# Altium footprint library Gelnar.PcbLib: 295 footprints (part 16 of 19)
Each footprint in its own frame and in the unit in brackets; x right, y up, seen from the top. Pads: shape width x height; smd on the part's side, far side on the other; paste and mask are expansions set on the pad; w line width, h text height; cw(c..) or ccw(c..) is an arc to the next point about the centre after c.
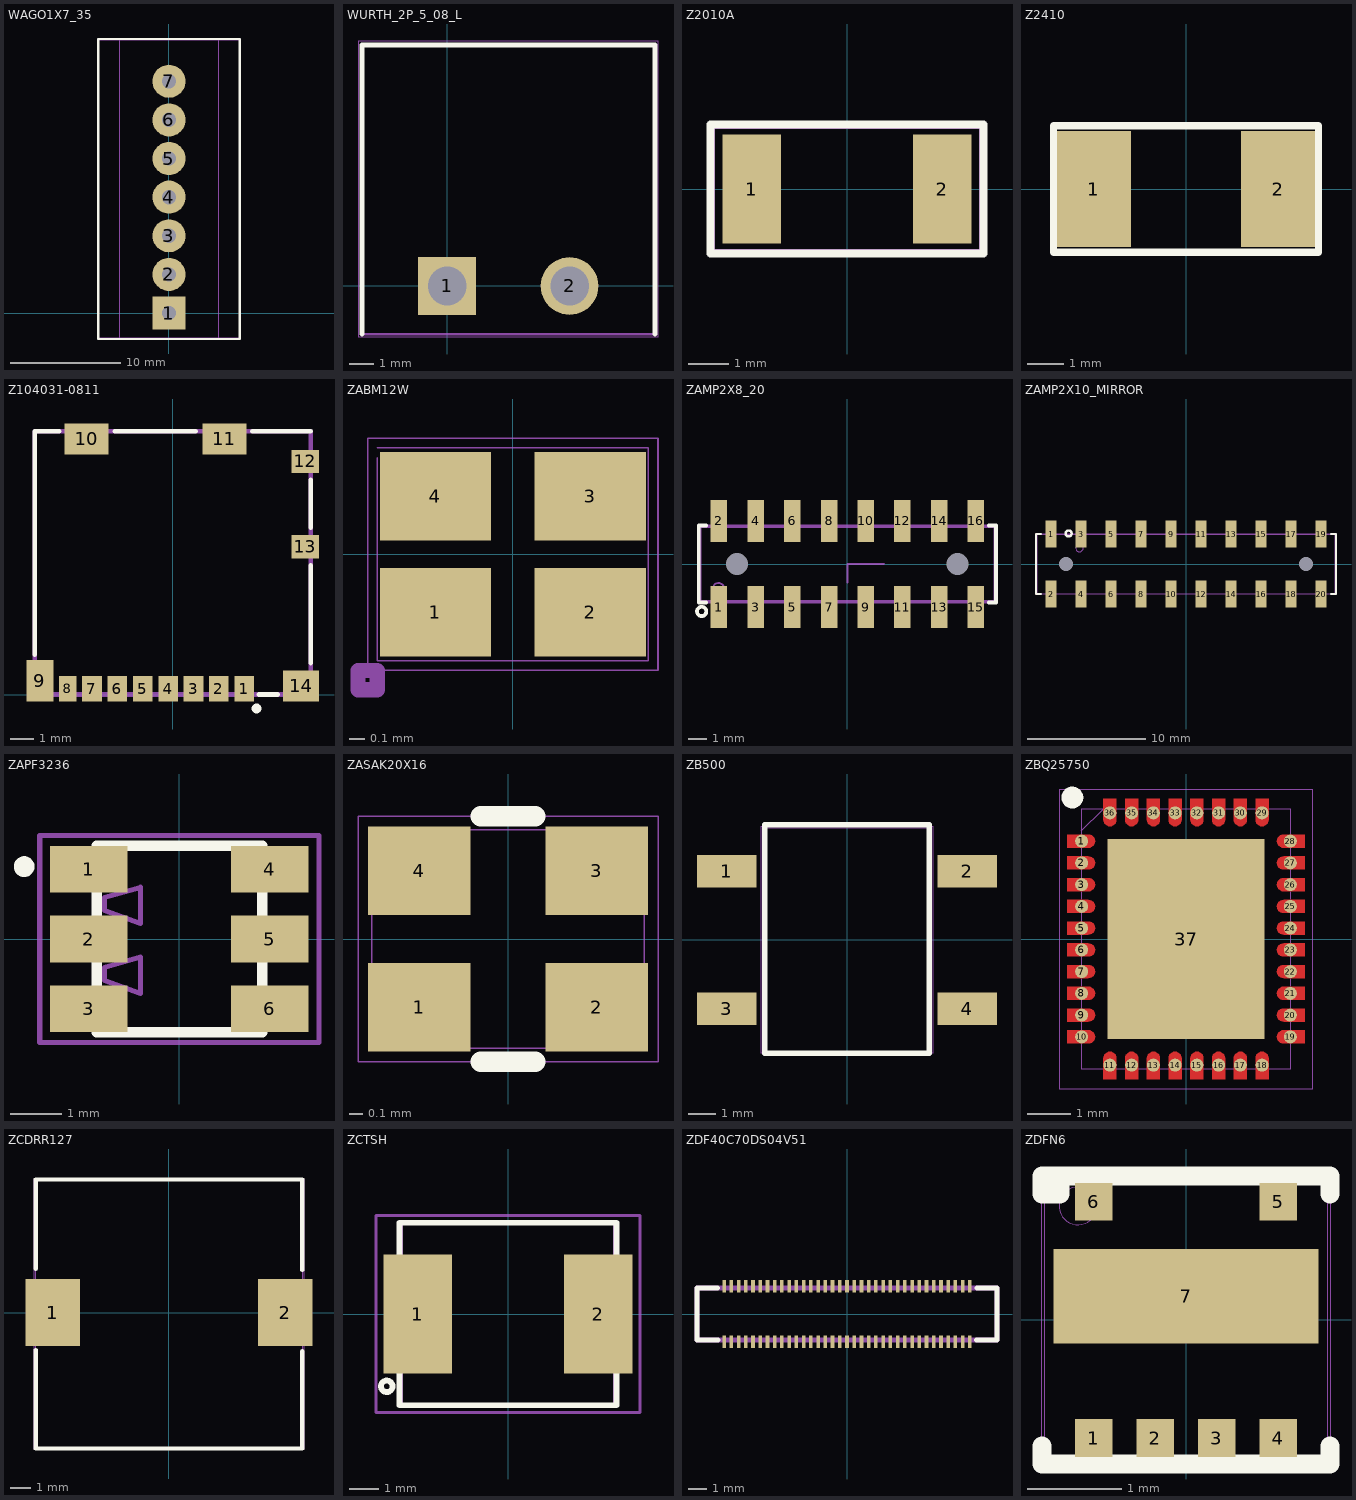
[diagram p15: the footprints below, top view; thin cyan lines are the x and y axes]

## WAGO1X7_35 [mm]
pads (7):
  rect 3x3 hole 1.3 mask+0.1: 1(0,0)
  round 3 hole 1.3 mask+0.1: 2(0,3.5) 3(0,7) 4(0,10.5) 5(0,14) 6(0,17.5) 7(0,21)
Top Overlay:
  lines w0.2: -6.413,-2.349 6.413,-2.349 6.413,24.828 -6.413,24.828 -6.413,-2.349
Mechanical 15:
  lines w0.1: -4.445,-2.286 -4.445,24.765 ; 4.445,-2.286 4.445,24.765 ; -6.35,-2.286 -6.35,24.765 6.35,24.765 6.35,-2.286 -6.35,-2.286
Multi-Layer:
  text "Value" at -3.735,1.996 h0.75
Mechanical 20:
  lines w0.1: -6.413,-2.349 -6.413,24.828 6.413,24.828 6.413,-2.349 -6.413,-2.349

## WURTH_2P_5_08_L [mm]
pads (2):
  rect 2.4x2.4 / inner round 2.4 / far side rect 2.4x2.4 hole 1.6 mask+0.05: 1(0,0)
  round 2.4 hole 1.6 mask+0.05: 2(5.08,0)
Top Overlay:
  lines w0.2: -3.54,-2 -3.54,10 8.62,10 8.62,-2
Mechanical 15:
  lines w0.1: -3.54,-2 -3.54,10 8.62,10 8.62,-2 -3.54,-2
Multi-Layer:
  text "Value" at 1,2.9 h0.75
Mechanical 20:
  lines w0.05: -3.7,-2.1 8.75,-2.1 8.75,10.15 -3.7,10.15 -3.7,-2.1

## Z2010A [mm]
height 1.25
pads (2):
  rect 1.45x2.7 smd paste-0.205 mask+0.05: 1(-2.349,0) 2(2.349,0)
Top Overlay:
  lines w0.2: -3.365,-1.587 3.365,-1.587 3.365,1.587 -3.365,1.587 -3.365,-1.587
Mechanical 15:
  lines w0.1: -3.302,-1.524 3.302,-1.524 3.302,1.524 -3.302,1.524 -3.302,-1.524
Multi-Layer:
  text "Value" at -1.172,-1.06 h0.75
Mechanical 20:
  lines w0.1: -3.365,-1.587 3.365,-1.587 3.365,1.587 -3.365,1.587 -3.365,-1.587

## Z2410 [mm]
pads (2):
  rect 2x3.15 smd mask+0.05: 1(-2.5,0) 2(2.5,0)
Top Overlay:
  lines w0.2: -3.6,-1.714 3.6,-1.714 3.6,1.714 -3.6,1.714 -3.6,-1.714
Mechanical 15:
  lines w0.01: -3.556,-1.651 3.556,-1.651 3.556,1.651 -3.556,1.651 -3.556,-1.651
Multi-Layer:
  text "Value" at -1.127,-1.015 h0.75
Mechanical 20:
  lines w0.01: -3.619,-1.714 3.619,-1.714 3.619,1.714 -3.619,1.714 -3.619,-1.714

## Z104031-0811 [mm]
pads (14):
  rect 0.85x1.1 smd mask+0.05: 1(3.105,0.25) 2(2.005,0.25) 3(0.905,0.25) 4(-0.195,0.25) 5(-1.295,0.25) 6(-2.395,0.25) 7(-3.495,0.25)
  rect 0.75x1.1 smd mask+0.05: 8(-4.545,0.25)
  rect 1.17x1.8 smd mask+0.05: 9(-5.755,0.6)
  rect 1.9x1.35 smd mask+0.05: 10(-3.73,11.075) 11(2.24,11.075)
  rect 1.2x1 smd mask+0.05: 12(5.74,10.1) 13(5.74,6.4)
  rect 1.55x1.35 smd mask+0.05: 14(5.565,0.375)
Top Overlay:
  circle w0.2: c3.634,-0.605 r0.113
  lines w0.2: -5.975,1.721 -5.975,11.4 -4.914,11.4 ; -2.5,11.4 1,11.4 ; 3.455,11.4 5.975,11.4 ; 3.739,0 4.56,0 ; 5.975,1.367 5.975,5.601 ; 5.975,7.216 5.975,9.297
Mechanical 15:
  lines w0.2: -5.975,0 5.975,0 5.975,11.4 -5.975,11.4 -5.975,0

## ZABM12W [mm]
pads (4):
  rect 0.73x0.58 smd paste-0.055 mask+0.05: 1(-0.508,-0.381) 2(0.508,-0.381) 3(0.508,0.381) 4(-0.508,0.381)
Mechanical 15:
  lines w0.01: -0.889,0.635 -0.889,-0.699 0.889,-0.699 0.889,0.699 -0.889,0.699
  lines w0.1: -1.016,-0.889 -0.889,-0.889 -0.889,-0.762 -1.016,-0.762 -1.016,-0.889
Mechanical 19:
  lines w0.01: -0.953,-0.762 0.953,-0.762 0.953,0.762 -0.953,0.762 -0.953,-0.762

## ZAMP2X8_20 [mm]
pads (18):
  rect 0.9x2.3 smd paste-0.175 mask+0.05: 1(-7,-2.349) 2(-7,2.349) 3(-5,-2.349) 4(-5,2.349) 5(-3,-2.349) 6(-3,2.349) 7(-1,-2.349) 8(-1,2.349) 9(1,-2.349) 10(1,2.349) 11(3,-2.349) 12(3,2.349) 13(5,-2.349) 14(5,2.349) 15(7,-2.349) 16(7,2.349)
  round 0 hole 1.2 unplated: HL1(-6,0) HL2(6,0)
Top Overlay:
  circle w0.2: c-7.936,-2.585 r0.254
  lines w0.2: -7.7,-2.1 -8.1,-2.1 -8.1,2.1 -7.7,2.1 ; 7.7,-2.1 8.1,-2.1 8.1,2.1 7.7,2.1
Mechanical 15:
  circle w0.1: c-7.019,-1.351 r0.318
  lines w0.1: -8,-2 8,-2 8,2 -8,2 -8,-2
Mechanical 16:
  lines w0.1: 0,-1 0,0 2,0
Multi-Layer:
  text "Value" at -1.285,-1.725 h0.75
Mechanical 20:
  lines w0.1: -8.1,-2.1 8.1,-2.1 8.1,2.1 -8.1,2.1 -8.1,-2.1

## ZAMP2X10_MIRROR [mm]
pads (22):
  rect 0.9x2.3 smd paste-0.175 mask+0.05: 1(-11.43,2.54) 2(-11.43,-2.54) 3(-8.89,2.54) 4(-8.89,-2.54) 5(-6.35,2.54) 6(-6.35,-2.54) 7(-3.81,2.54) 8(-3.81,-2.54) 9(-1.27,2.54) 10(-1.27,-2.54) 11(1.27,2.54) 12(1.27,-2.54) 13(3.81,2.54) 14(3.81,-2.54) 15(6.35,2.54) 16(6.35,-2.54) 17(8.89,2.54) 18(8.89,-2.54) 19(11.43,2.54) 20(11.43,-2.54)
  round 0 hole 1.2 unplated: HL1(-10.16,0) HL2(10.16,0)
Top Overlay:
  circle w0.2: c-9.937,2.585 r0.254
  lines w0.2: -12.3,-2.54 -12.7,-2.54 -12.7,2.54 -12.3,2.54 ; 12.3,-2.54 12.7,-2.54 12.7,2.54 12.3,2.54
Mechanical 15:
  circle w0.1: c-9.019,1.351 r0.318
  lines w0.1: -12.6,-2.54 12.6,-2.54 12.6,2.54 -12.6,2.54 -12.6,-2.54
Mechanical 20:
  lines w0.1: -12.7,-2.55 12.7,-2.55 12.7,2.55 -12.7,2.55 -12.7,-2.55

## ZAPF3236 [mm]
pads (6):
  rect 1.5x0.9 smd paste-0.112 mask+0.05: 1(-1.75,1.35) 2(-1.75,0) 3(-1.75,-1.35) 4(1.75,1.35) 5(1.75,0) 6(1.75,-1.35)
Top Overlay:
  lines w0.1: -0.2,-1.8 0.2,-1.8 ; -0.2,1.8 0.2,1.8
  lines w0.2: -3,1.3 cw(c-3,1.4) -3,1.5 ; -3,1.3 -3,1.3 ; -3,1.3 ccw(c-3,1.4) -3,1.5 ; -3,1.3 cw(c-3,1.4) -3,1.5 ; -3,1.5 -3,1.5 ; -3,1.5 -3,1.5 ; -1.6,-1.8 1.6,-1.8 1.6,1.8 -1.6,1.8 -1.6,-1.8
Mechanical 15:
  lines w0.1: -1.6,-1.8 1.6,-1.8 1.6,1.8 -1.6,1.8 -1.6,-1.8 ; -1.45,-0.8 -1.45,-0.55 -0.75,-0.35 -0.75,-1.05 -1.45,-0.8 ; -1.45,0.55 -1.45,0.8 -0.75,1 -0.75,0.3 -1.45,0.55
Mechanical 20:
  lines w0.1: -2.7,-2 2.7,-2 2.7,2 -2.7,2 -2.7,-2

## ZASAK20X16 [mm]
pads (4):
  rect 0.75x0.65 smd mask+0.05: 1(-0.65,-0.5) 2(0.65,-0.5) 3(0.65,0.5) 4(-0.65,0.5)
Top Overlay:
  lines w0.15: -0.2,-0.9 0.2,-0.9 ; -0.2,0.9 0.2,0.9
Mechanical 15:
  circle w0.01: c-0.7,-0.5 r0.2
  lines w0.01: -1,-0.8 1,-0.8 1,0.8 -1,0.8 -1,-0.8
Mechanical 20:
  lines w0.01: -1.1,-0.9 1.1,-0.9 1.1,0.9 -1.1,0.9 -1.1,-0.9

## ZB500 [mm]
pads (4):
  rect 2.2x1.2 smd mask+0.05: 1(-4.445,2.54) 2(4.445,2.54) 3(-4.445,-2.54) 4(4.445,-2.54)
Top Overlay:
  lines w0.2: -3.048,-4.191 3.048,-4.191 3.048,4.255 -3.048,4.255 -3.048,-4.191
Mechanical 15:
  lines w0.01: -3.111,-4.15 3.111,-4.15 3.111,4.15 -3.111,4.15 -3.111,-4.15
  text "+" at 1.618,-2.763 h1.25
  text "~" at -2.623,-3.287 h1.5
  text "~" at -2.496,1.793 h1.5
  text "-" at 1.682,2.853 h1.25
Multi-Layer:
  text "Value" at -1.379,-2.007 h0.75
Mechanical 20:
  lines w0.01: -3.175,-4.191 3.175,-4.191 3.175,4.191 -3.175,4.191 -3.175,-4.191

## ZBQ25750 [mm]
pads (37):
  round 0.3 smd: 1(-2.4,2.25) 2(-2.4,1.75) 3(-2.4,1.25) 4(-2.4,0.75) 5(-2.4,0.25) 6(-2.4,-0.25) 7(-2.4,-0.75) 8(-2.4,-1.25) 9(-2.4,-1.75) 10(-2.4,-2.25) 11(-1.75,-2.9) 12(-1.25,-2.9) 13(-0.75,-2.9) 14(-0.25,-2.9) 15(0.25,-2.9) 16(0.75,-2.9) 17(1.25,-2.9) 18(1.75,-2.9) 19(2.4,-2.25) 20(2.4,-1.75) 21(2.4,-1.25) 22(2.4,-0.75) 23(2.4,-0.25) 24(2.4,0.25) 25(2.4,0.75) 26(2.4,1.25) 27(2.4,1.75) 28(2.4,2.25) 29(1.75,2.9) 30(1.25,2.9) 31(0.75,2.9) 32(0.25,2.9) 33(-0.25,2.9) 34(-0.75,2.9) 35(-1.25,2.9) 36(-1.75,2.9)
  rect 3.6x4.6 smd mask+0.05: 37(0,0)
L1-Top Layer:
  region: -2.73,2.4 -2.243,2.401 -2.204,2.396 -2.168,2.381 -2.136,2.357 -2.112,2.326 -2.097,2.289 -2.092,2.25 -2.097,2.211 -2.112,2.174 -2.136,2.143 -2.168,2.119 -2.204,2.104 -2.243,2.099 -2.243,2.1 -2.73,2.1
  region: -2.73,1.9 -2.243,1.901 -2.204,1.896 -2.168,1.881 -2.136,1.857 -2.112,1.826 -2.097,1.789 -2.092,1.75 -2.097,1.711 -2.112,1.674 -2.136,1.643 -2.168,1.619 -2.204,1.604 -2.243,1.599 -2.243,1.6 -2.73,1.6
  region: -2.73,1.4 -2.243,1.401 -2.204,1.396 -2.168,1.381 -2.136,1.357 -2.112,1.326 -2.097,1.289 -2.092,1.25 -2.097,1.211 -2.112,1.174 -2.136,1.143 -2.168,1.119 -2.204,1.104 -2.243,1.099 -2.243,1.1 -2.73,1.1
  region: -2.73,0.9 -2.243,0.901 -2.204,0.896 -2.168,0.881 -2.136,0.857 -2.112,0.826 -2.097,0.789 -2.092,0.75 -2.097,0.711 -2.112,0.674 -2.136,0.643 -2.168,0.619 -2.204,0.604 -2.243,0.599 -2.243,0.6 -2.73,0.6
  region: -2.73,0.4 -2.243,0.401 -2.204,0.396 -2.168,0.381 -2.136,0.357 -2.112,0.326 -2.097,0.289 -2.092,0.25 -2.097,0.211 -2.112,0.174 -2.136,0.143 -2.168,0.119 -2.204,0.104 -2.243,0.099 -2.243,0.1 -2.73,0.1
  region: -2.73,-0.1 -2.243,-0.099 -2.204,-0.104 -2.168,-0.119 -2.136,-0.143 -2.112,-0.174 -2.097,-0.211 -2.092,-0.25 -2.097,-0.289 -2.112,-0.326 -2.136,-0.357 -2.168,-0.381 -2.204,-0.396 -2.243,-0.401 -2.243,-0.4 -2.73,-0.4
  region: -2.73,-0.6 -2.243,-0.599 -2.204,-0.604 -2.168,-0.619 -2.136,-0.643 -2.112,-0.674 -2.097,-0.711 -2.092,-0.75 -2.097,-0.789 -2.112,-0.826 -2.136,-0.857 -2.168,-0.881 -2.204,-0.896 -2.243,-0.901 -2.243,-0.9 -2.73,-0.9
  region: -2.73,-1.1 -2.243,-1.099 -2.204,-1.104 -2.168,-1.119 -2.136,-1.143 -2.112,-1.174 -2.097,-1.211 -2.092,-1.25 -2.097,-1.289 -2.112,-1.326 -2.136,-1.357 -2.168,-1.381 -2.204,-1.396 -2.243,-1.401 -2.243,-1.4 -2.73,-1.4
  region: -2.73,-1.6 -2.243,-1.599 -2.204,-1.604 -2.168,-1.619 -2.136,-1.643 -2.112,-1.674 -2.097,-1.711 -2.092,-1.75 -2.097,-1.789 -2.112,-1.826 -2.136,-1.857 -2.168,-1.881 -2.204,-1.896 -2.243,-1.901 -2.243,-1.9 -2.73,-1.9
  region: -2.73,-2.1 -2.243,-2.099 -2.204,-2.104 -2.168,-2.119 -2.136,-2.143 -2.112,-2.174 -2.097,-2.211 -2.092,-2.25 -2.097,-2.289 -2.112,-2.326 -2.136,-2.357 -2.168,-2.381 -2.204,-2.396 -2.243,-2.401 -2.243,-2.4 -2.73,-2.4
  region: -1.9,-3.23 -1.901,-2.743 -1.896,-2.704 -1.881,-2.668 -1.857,-2.636 -1.826,-2.612 -1.789,-2.597 -1.75,-2.592 -1.711,-2.597 -1.674,-2.612 -1.643,-2.636 -1.619,-2.668 -1.604,-2.704 -1.599,-2.743 -1.6,-2.743 -1.6,-3.23
  region: -1.4,-3.23 -1.401,-2.743 -1.396,-2.704 -1.381,-2.668 -1.357,-2.636 -1.326,-2.612 -1.289,-2.597 -1.25,-2.592 -1.211,-2.597 -1.174,-2.612 -1.143,-2.636 -1.119,-2.668 -1.104,-2.704 -1.099,-2.743 -1.1,-2.743 -1.1,-3.23
  region: -0.9,-3.23 -0.901,-2.743 -0.896,-2.704 -0.881,-2.668 -0.857,-2.636 -0.826,-2.612 -0.789,-2.597 -0.75,-2.592 -0.711,-2.597 -0.674,-2.612 -0.643,-2.636 -0.619,-2.668 -0.604,-2.704 -0.599,-2.743 -0.6,-2.743 -0.6,-3.23
  region: -0.4,-3.23 -0.401,-2.743 -0.396,-2.704 -0.381,-2.668 -0.357,-2.636 -0.326,-2.612 -0.289,-2.597 -0.25,-2.592 -0.211,-2.597 -0.174,-2.612 -0.143,-2.636 -0.119,-2.668 -0.104,-2.704 -0.099,-2.743 -0.1,-2.743 -0.1,-3.23
  region: 0.1,-3.23 0.099,-2.743 0.104,-2.704 0.119,-2.668 0.143,-2.636 0.174,-2.612 0.211,-2.597 0.25,-2.592 0.289,-2.597 0.326,-2.612 0.357,-2.636 0.381,-2.668 0.396,-2.704 0.401,-2.743 0.4,-2.743 0.4,-3.23
  region: 0.6,-3.23 0.599,-2.743 0.604,-2.704 0.619,-2.668 0.643,-2.636 0.674,-2.612 0.711,-2.597 0.75,-2.592 0.789,-2.597 0.826,-2.612 0.857,-2.636 0.881,-2.668 0.896,-2.704 0.901,-2.743 0.9,-2.743 0.9,-3.23
  region: 1.1,-3.23 1.099,-2.743 1.104,-2.704 1.119,-2.668 1.143,-2.636 1.174,-2.612 1.211,-2.597 1.25,-2.592 1.289,-2.597 1.326,-2.612 1.357,-2.636 1.381,-2.668 1.396,-2.704 1.401,-2.743 1.4,-2.743 1.4,-3.23
  region: 1.6,-3.23 1.599,-2.743 1.604,-2.704 1.619,-2.668 1.643,-2.636 1.674,-2.612 1.711,-2.597 1.75,-2.592 1.789,-2.597 1.826,-2.612 1.857,-2.636 1.881,-2.668 1.896,-2.704 1.901,-2.743 1.9,-2.743 1.9,-3.23
  region: 2.73,-2.4 2.243,-2.401 2.204,-2.396 2.168,-2.381 2.136,-2.357 2.112,-2.326 2.097,-2.289 2.092,-2.25 2.097,-2.211 2.112,-2.174 2.136,-2.143 2.168,-2.119 2.204,-2.104 2.243,-2.099 2.243,-2.1 2.73,-2.1
  region: 2.73,-1.9 2.243,-1.901 2.204,-1.896 2.168,-1.881 2.136,-1.857 2.112,-1.826 2.097,-1.789 2.092,-1.75 2.097,-1.711 2.112,-1.674 2.136,-1.643 2.168,-1.619 2.204,-1.604 2.243,-1.599 2.243,-1.6 2.73,-1.6
  region: 2.73,-1.4 2.243,-1.401 2.204,-1.396 2.168,-1.381 2.136,-1.357 2.112,-1.326 2.097,-1.289 2.092,-1.25 2.097,-1.211 2.112,-1.174 2.136,-1.143 2.168,-1.119 2.204,-1.104 2.243,-1.099 2.243,-1.1 2.73,-1.1
  region: 2.73,-0.9 2.243,-0.901 2.204,-0.896 2.168,-0.881 2.136,-0.857 2.112,-0.826 2.097,-0.789 2.092,-0.75 2.097,-0.711 2.112,-0.674 2.136,-0.643 2.168,-0.619 2.204,-0.604 2.243,-0.599 2.243,-0.6 2.73,-0.6
  region: 2.73,-0.4 2.243,-0.401 2.204,-0.396 2.168,-0.381 2.136,-0.357 2.112,-0.326 2.097,-0.289 2.092,-0.25 2.097,-0.211 2.112,-0.174 2.136,-0.143 2.168,-0.119 2.204,-0.104 2.243,-0.099 2.243,-0.1 2.73,-0.1
  region: 2.73,0.1 2.243,0.099 2.204,0.104 2.168,0.119 2.136,0.143 2.112,0.174 2.097,0.211 2.092,0.25 2.097,0.289 2.112,0.326 2.136,0.357 2.168,0.381 2.204,0.396 2.243,0.401 2.243,0.4 2.73,0.4
  region: 2.73,0.6 2.243,0.599 2.204,0.604 2.168,0.619 2.136,0.643 2.112,0.674 2.097,0.711 2.092,0.75 2.097,0.789 2.112,0.826 2.136,0.857 2.168,0.881 2.204,0.896 2.243,0.901 2.243,0.9 2.73,0.9
  region: 2.73,1.1 2.243,1.099 2.204,1.104 2.168,1.119 2.136,1.143 2.112,1.174 2.097,1.211 2.092,1.25 2.097,1.289 2.112,1.326 2.136,1.357 2.168,1.381 2.204,1.396 2.243,1.401 2.243,1.4 2.73,1.4
  region: 2.73,1.6 2.243,1.599 2.204,1.604 2.168,1.619 2.136,1.643 2.112,1.674 2.097,1.711 2.092,1.75 2.097,1.789 2.112,1.826 2.136,1.857 2.168,1.881 2.204,1.896 2.243,1.901 2.243,1.9 2.73,1.9
  region: 2.73,2.1 2.243,2.099 2.204,2.104 2.168,2.119 2.136,2.143 2.112,2.174 2.097,2.211 2.092,2.25 2.097,2.289 2.112,2.326 2.136,2.357 2.168,2.381 2.204,2.396 2.243,2.401 2.243,2.4 2.73,2.4
  region: 1.9,3.23 1.901,2.743 1.896,2.704 1.881,2.668 1.857,2.636 1.826,2.612 1.789,2.597 1.75,2.592 1.711,2.597 1.674,2.612 1.643,2.636 1.619,2.668 1.604,2.704 1.599,2.743 1.6,2.743 1.6,3.23
  region: 1.4,3.23 1.401,2.743 1.396,2.704 1.381,2.668 1.357,2.636 1.326,2.612 1.289,2.597 1.25,2.592 1.211,2.597 1.174,2.612 1.143,2.636 1.119,2.668 1.104,2.704 1.099,2.743 1.1,2.743 1.1,3.23
  region: 0.9,3.23 0.901,2.743 0.896,2.704 0.881,2.668 0.857,2.636 0.826,2.612 0.789,2.597 0.75,2.592 0.711,2.597 0.674,2.612 0.643,2.636 0.619,2.668 0.604,2.704 0.599,2.743 0.6,2.743 0.6,3.23
  region: 0.4,3.23 0.401,2.743 0.396,2.704 0.381,2.668 0.357,2.636 0.326,2.612 0.289,2.597 0.25,2.592 0.211,2.597 0.174,2.612 0.143,2.636 0.119,2.668 0.104,2.704 0.099,2.743 0.1,2.743 0.1,3.23
  region: -0.1,3.23 -0.099,2.743 -0.104,2.704 -0.119,2.668 -0.143,2.636 -0.174,2.612 -0.211,2.597 -0.25,2.592 -0.289,2.597 -0.326,2.612 -0.357,2.636 -0.381,2.668 -0.396,2.704 -0.401,2.743 -0.4,2.743 -0.4,3.23
  region: -0.6,3.23 -0.599,2.743 -0.604,2.704 -0.619,2.668 -0.643,2.636 -0.674,2.612 -0.711,2.597 -0.75,2.592 -0.789,2.597 -0.826,2.612 -0.857,2.636 -0.881,2.668 -0.896,2.704 -0.901,2.743 -0.9,2.743 -0.9,3.23
  region: -1.1,3.23 -1.099,2.743 -1.104,2.704 -1.119,2.668 -1.143,2.636 -1.174,2.612 -1.211,2.597 -1.25,2.592 -1.289,2.597 -1.326,2.612 -1.357,2.636 -1.381,2.668 -1.396,2.704 -1.401,2.743 -1.4,2.743 -1.4,3.23
  region: -1.6,3.23 -1.599,2.743 -1.604,2.704 -1.619,2.668 -1.643,2.636 -1.674,2.612 -1.711,2.597 -1.75,2.592 -1.789,2.597 -1.826,2.612 -1.857,2.636 -1.881,2.668 -1.896,2.704 -1.901,2.743 -1.9,2.743 -1.9,3.23
Top Overlay:
  circle w0.25: c-2.613,3.254 r0.125
Top Solder:
  drawing of 36 lines, arcs and shapes, not listed
Mechanical 15:
  lines w0.01: -2.405,2.485 -1.905,2.984 ; -2.4,-3 2.4,-3 2.4,3 -2.4,3 -2.4,-3
Mechanical 20:
  lines w0.01: -2.9,-3.45 2.9,-3.45 2.9,3.45 -2.9,3.45 -2.9,-3.45

## ZCDRR127 [mm]
pads (2):
  rect 2.6x3.2 smd paste-0.2 mask+0.05: 1(-5.55,0) 2(5.55,0)
Top Overlay:
  lines w0.2: -6.35,-1.778 -6.35,-6.477 6.35,-6.477 6.35,-1.841 ; -6.35,2.095 -6.35,6.35 6.35,6.35 6.35,2.032
Mechanical 15:
  lines w0.01: -6.35,-6.477 6.35,-6.477 6.35,6.35 -6.35,6.35 -6.35,-6.477
Multi-Layer:
  text "Value" at -1.235,-0.298 h0.75
Mechanical 20:
  lines w0.01: -6.413,-6.54 6.413,-6.54 6.413,6.413 -6.413,6.413 -6.413,-6.54

## ZCTSH [mm]
pads (2):
  rect 2.37x4.13 smd mask+0.05: 1(-3.12,0) 2(3.12,0)
Top Overlay:
  circle w0.2: c-4.191,-2.5 r0.2
  lines w0.2: -3.746,-1.778 -3.746,-3.153 3.746,-3.153 3.746,-1.778 ; -3.746,1.778 -3.746,3.153 3.746,3.153 3.746,1.778
Mechanical 15:
  lines w0.1: -3.429,0 -2.921,0 ; -3.175,-0.254 -3.175,0.254 ; -3.683,-3.159 3.683,-3.159 3.683,3.159 -3.683,3.159 -3.683,-3.159
Multi-Layer:
  text "Value" at -1.235,-1.441 h0.75
Mechanical 20:
  lines w0.1: -4.56,-3.4 4.56,-3.4 4.56,3.4 -4.56,3.4 -4.56,-3.4 ; -3.746,-3.153 3.746,-3.153 3.746,3.153 -3.746,3.153 -3.746,-3.153

## ZDF40C70DS04V51 [mm]
pads (70):
  rect 0.2x0.7 smd: 1(-6.8,-1.54) 2(-6.8,1.54) 3(-6.4,-1.54) 4(-6.4,1.54) 5(-6,-1.54) 6(-6,1.54) 7(-5.6,-1.54) 8(-5.6,1.54) 9(-5.2,-1.54) 10(-5.2,1.54) 11(-4.8,-1.54) 12(-4.8,1.54) 13(-4.4,-1.54) 14(-4.4,1.54) 15(-4,-1.54) 16(-4,1.54) 17(-3.6,-1.54) 18(-3.6,1.54) 19(-3.2,-1.54) 20(-3.2,1.54) 21(-2.8,-1.54) 22(-2.8,1.54) 23(-2.4,-1.54) 24(-2.4,1.54) 25(-2,-1.54) 26(-2,1.54) 27(-1.6,-1.54) 28(-1.6,1.54) 29(-1.2,-1.54) 30(-1.2,1.54) 31(-0.8,-1.54) 32(-0.8,1.54) 33(-0.4,-1.54) 34(-0.4,1.54) 35(0,-1.54) 36(0,1.54) 37(0.4,-1.54) 38(0.4,1.54) 39(0.8,-1.54) 40(0.8,1.54) 41(1.2,-1.54) 42(1.2,1.54) 43(1.6,-1.54) 44(1.6,1.54) 45(2,-1.54) 46(2,1.54) 47(2.4,-1.54) 48(2.4,1.54) 49(2.8,-1.54) 50(2.8,1.54) 51(3.2,-1.54) 52(3.2,1.54) 53(3.6,-1.54) 54(3.6,1.54) 55(4,-1.54) 56(4,1.54) 57(4.4,-1.54) 58(4.4,1.54) 59(4.8,-1.54) 60(4.8,1.54) 61(5.2,-1.54) 62(5.2,1.54) 63(5.6,-1.54) 64(5.6,1.54) 65(6,-1.54) 66(6,1.54) 67(6.4,-1.54) 68(6.4,1.54) 69(6.8,-1.54) 70(6.8,1.54)
Top Overlay:
  lines w0.254: -7.144,1.44 -8.3,1.44 -8.3,-1.44 -7.116,-1.44 ; 7.158,-1.44 8.3,-1.44 8.3,1.44 7.172,1.44
Mechanical 15:
  lines w0.254: -8.3,-1.44 8.3,-1.44 8.3,1.44 -8.3,1.44 -8.3,-1.44

## ZDFN6 [mm]
height 1.75
pads (7):
  rect 0.4x0.4 smd mask+0.05: 1(-0.975,-1.25) 2(-0.325,-1.25) 3(0.325,-1.25) 4(0.975,-1.25) 5(0.975,1.25) 6(-0.975,1.25)
  rect 2.8x1 smd mask+0.05: 7(0,0.25)
Top Overlay:
  lines w0.2: -1.524,-1.333 -1.524,-1.524 1.524,-1.524 1.524,-1.333 ; -1.333,1.524 -1.333,1.333 -1.524,1.333 -1.524,1.524 1.524,1.524 1.524,1.333
Mechanical 15:
  circle w0.01: c-1.143,1.206 r0.2
  lines w0.01: -1.5,-1.5 1.5,-1.5 1.5,1.5 -1.5,1.5 -1.5,-1.5
Mechanical 20:
  lines w0.01: -1.524,-1.524 1.524,-1.524 1.524,1.524 -1.524,1.524 -1.524,-1.524